# Altium schematic symbol library SCH - ARM CORTEX - STM STM8AF52A6Ux.SchLib: 1 symbol
Pins are listed as number, name and electrical type; pins without a type are passive.

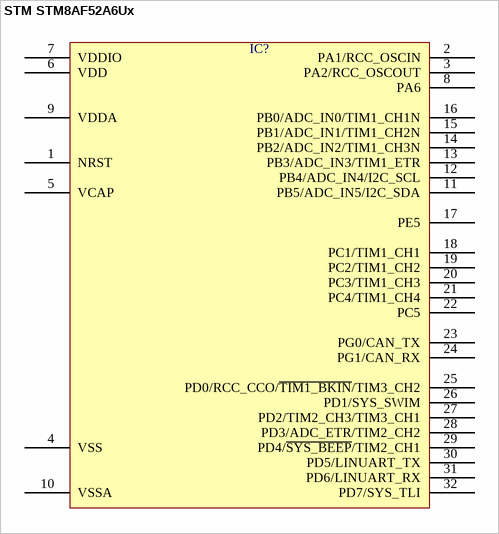
[diagram p0: symbol STM STM8AF52A6Ux]

## STM STM8AF52A6Ux
designator IC?  (value not drawn)
pins: 1 NRST, 2 PA1/RCC_OSCIN, 3 PA2/RCC_OSCOUT, 4 VSS, 5 VCAP, 6 VDD, 7 VDDIO, 8 PA6, 9 VDDA, 10 VSSA, 11 PB5/ADC_IN5/I2C_SDA, 12 PB4/ADC_IN4/I2C_SCL, 13 PB3/ADC_IN3/TIM1_ETR, 14 PB2/ADC_IN2/TIM1_CH3N, 15 PB1/ADC_IN1/TIM1_CH2N, 16 PB0/ADC_IN0/TIM1_CH1N, 17 PE5, 18 PC1/TIM1_CH1, 19 PC2/TIM1_CH2, 20 PC3/TIM1_CH3, 21 PC4/TIM1_CH4, 22 PC5, 23 PG0/CAN_TX, 24 PG1/CAN_RX, 25 PD0/RCC_CCO/~{TIM1_BKIN}/TIM3_CH2, 26 PD1/SYS_SWIM, 27 PD2/TIM2_CH3/TIM3_CH1, 28 PD3/ADC_ETR/TIM2_CH2, 29 PD4/~{SYS_BEEP}/TIM2_CH1, 30 PD5/LINUART_TX, 31 PD6/LINUART_RX, 32 PD7/SYS_TLI